# Altium footprint library CMod5_1.PcbLib: 117 footprints (part 5 of 8)
Each footprint in its own frame and in the unit in brackets; x right, y up, seen from the top. Pads: shape width x height; smd on the part's side, far side on the other; paste and mask are expansions set on the pad; w line width, h text height; cw(c..) or ccw(c..) is an arc to the next point about the centre after c.
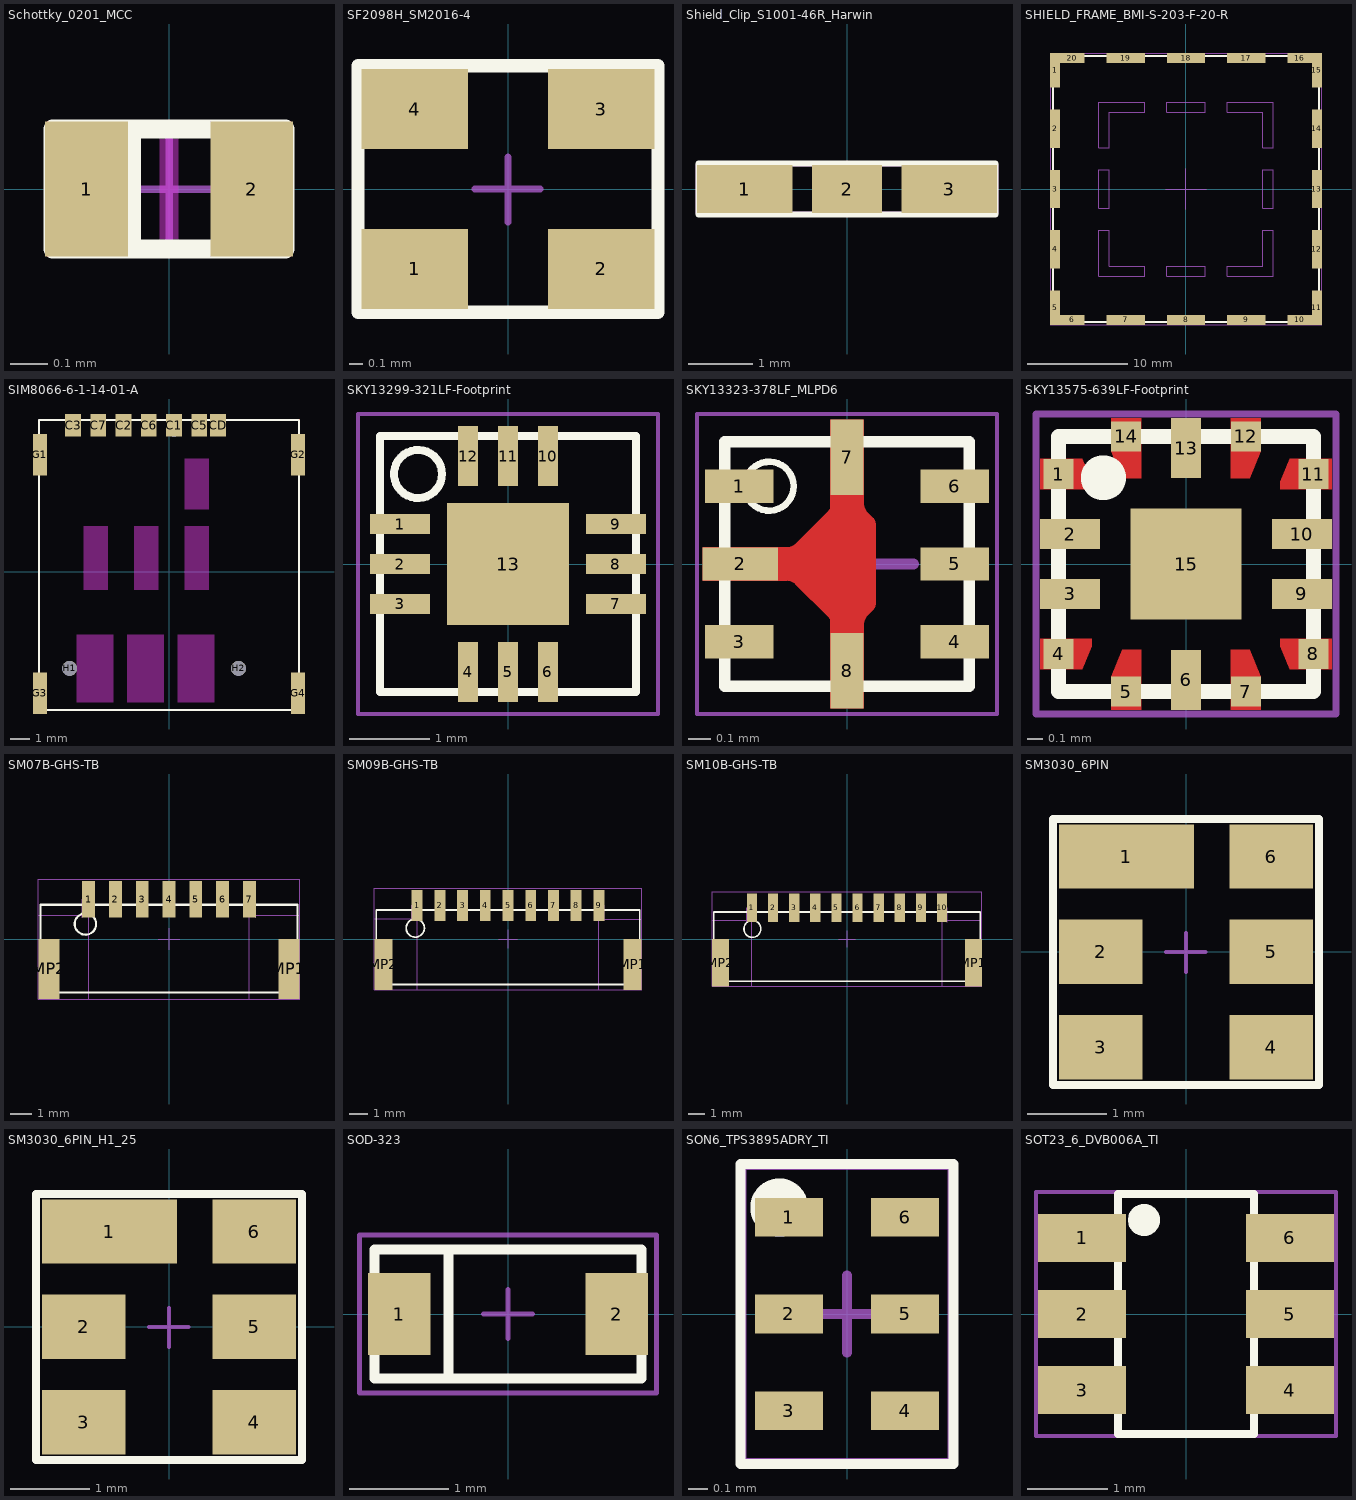
[diagram p4: the footprints below, top view; thin cyan lines are the x and y axes]

## Schottky_0201_MCC [mm] "Schottkydiode, 0201, Micro Commercial Components"
height 0.37
pads (2):
  rect 0.22x0.36 smd mask+0.05: 1(-0.22,0) 2(0.22,0)
Top Layer keep-out:
  rectangle: -0.025,-0.18 0.025,0.18
Top Overlay:
  lines w0.05: -0.1,-0.16 -0.1,0.16 ; -0.31,-0.16 -0.31,0.16 0.31,0.16 0.31,-0.16 -0.31,-0.16
Top Courtyard:
  lines w0.02: -0.145,0 0.145,0 ; 0,-0.15 0,0.15 ; -0.31,-0.16 0.31,-0.16 0.31,0.16 -0.31,0.16 -0.31,-0.16
3D body: height 0.32, standoff 0.05, extent -0.125,-0.15 -0.075,0.15
3D body "RB751S-40DP-TP.stp": height 0.31, standoff 0.01, extent -0.31,-0.16 0.31,0.16

## SF2098H_SM2016-4 [mm] "SM2016-4, 1.6 x 2 4 pin"
height 0.75
pads (4):
  rect 0.8x0.6 smd paste+0 mask+0.05: 1(-0.7,-0.6) 2(0.7,-0.6) 3(0.7,0.6) 4(-0.7,0.6)
Top Overlay:
  circle w0.2: c-0.85,-0.65 r0.1
  lines w0.1: -1.125,-0.925 1.125,-0.925 1.125,0.925 -1.125,0.925 -1.125,-0.925
Top Courtyard:
  lines w0.05: -0.25,0 0.243,0 ; 0,-0.25 0,0.24 ; -1.125,-0.925 1.125,-0.925 1.125,0.925 -1.125,0.925 -1.125,-0.925
3D body: height 0.76, standoff 0.7, extent -0.9,-0.7 -0.6,-0.4
3D body: height 0.75, standoff 0, extent -1.05,-0.85 1.05,0.85

## Shield_Clip_S1001-46R_Harwin [mm] "EMC Shielding Clip"
height 2.1
pads (3):
  rect 1.5x0.75 smd paste-0.05 mask+0.05: 1(-1.6,0) 3(1.6,0)
  rect 1.1x0.75 smd paste-0.05 mask+0.05: 2(0,0)
Top Overlay:
  lines w0.1: -2.325,-0.4 -2.325,0.4 2.325,0.4 2.325,-0.4 -2.325,-0.4
Top Courtyard:
  lines w0.05: -0.25,0 0.25,0 ; 0,-0.25 0,0.25 ; -2.35,-0.375 -2.35,0.375 2.35,0.375 2.35,-0.375 -2.35,-0.375
3D body "s1001-46.stp": height 0.8, standoff 0, extent -2.25,-0.35 2.25,0.35

## SHIELD_FRAME_BMI-S-203-F-20-R [mm] "SHIELD FRAME 26.2 x 26.2 x 2"
height 2
pads (20):
  rect 1x3.41 smd paste+0 mask+0.05: 1(-13.01,11.805) 5(-13.01,-11.805) 11(13.01,-11.805) 15(13.01,11.805)
  rect 1x3.8 smd paste+0 mask+0.05: 2(-13.01,6) 3(-13.01,0) 4(-13.01,-6) 12(13.01,-6) 13(13.01,0) 14(13.01,6)
  rect 2.41x1 smd paste+0 mask+0.05: 6(-11.305,-13.01) 10(11.305,-13.01) 16(11.305,13.01) 20(-11.305,13.01)
  rect 3.8x1 smd paste+0 mask+0.05: 7(-6,-13.01) 8(0,-13.01) 9(6,-13.01) 17(6,13.01) 18(0,13.01) 19(-6,13.01)
Top Overlay:
  lines w0.2: -13.2,-13.2 13.2,-13.2 13.2,13.2 -13.2,13.2 -13.2,-13.2
Mechanical 4:
  lines w0.02: -8.65,-8.655 -4.1,-8.655 ; -8.65,-8.655 -8.65,-4.105 ; -8.65,-8.655 -8.65,-4.105 ; -8.65,-8.655 -4.1,-8.655 ; -8.65,-4.105 -7.65,-4.105 ; -8.65,-4.105 -7.65,-4.105 ; -8.65,-1.905 -8.65,1.895 ; -8.65,-1.905 -7.65,-1.905 ; -8.65,-1.905 -7.65,-1.905 ; -8.65,-1.905 -8.65,1.895 ; -8.65,1.895 -7.65,1.895 ; -8.65,1.895 -7.65,1.895 ; -8.65,4.095 -8.65,8.645 ; -8.65,4.095 -7.65,4.095 ; -8.65,4.095 -7.65,4.095 ; -8.65,4.095 -8.65,8.645 ; -8.65,8.645 -4.1,8.645 ; -8.65,8.645 -4.1,8.645 ; -7.65,-7.655 -7.65,-4.105 ; -7.65,-7.655 -4.1,-7.655 ; -7.65,-7.655 -7.65,-4.105 ; -7.65,-7.655 -4.1,-7.655 ; -7.65,-1.905 -7.65,1.895 ; -7.65,-1.905 -7.65,1.895 ; -7.65,4.095 -7.65,7.645 ; -7.65,4.095 -7.65,7.645 ; -7.65,7.645 -4.1,7.645 ; -7.65,7.645 -4.1,7.645 ; -4.1,-8.655 -4.1,-7.655 ; -4.1,-8.655 -4.1,-7.655 ; -4.1,7.645 -4.1,8.645 ; -4.1,7.645 -4.1,8.645 ; -1.9,-8.655 1.9,-8.655 ; -1.9,-8.655 -1.9,-7.655 ; -1.9,-8.655 -1.9,-7.655 ; -1.9,-8.655 1.9,-8.655 ; -1.9,-7.655 1.9,-7.655 ; -1.9,-7.655 1.9,-7.655 ; -1.9,7.645 1.9,7.645 ; -1.9,7.645 -1.9,8.645 ; -1.9,7.645 -1.9,8.645 ; -1.9,7.645 1.9,7.645 ; -1.9,8.645 1.9,8.645 ; -1.9,8.645 1.9,8.645 ; 1.9,-8.655 1.9,-7.655 ; 1.9,-8.655 1.9,-7.655 ; 1.9,7.645 1.9,8.645 ; 1.9,7.645 1.9,8.645 ; 4.1,-8.655 8.65,-8.655 ; 4.1,-8.655 4.1,-7.655 ; 4.1,-8.655 4.1,-7.655 ; 4.1,-8.655 8.65,-8.655 ; 4.1,-7.655 7.65,-7.655 ; 4.1,-7.655 7.65,-7.655 ; 4.1,7.645 7.65,7.645 ; 4.1,7.645 4.1,8.645 ; 4.1,7.645 4.1,8.645 ; 4.1,7.645 7.65,7.645 ; 4.1,8.645 8.65,8.645 ; 4.1,8.645 8.65,8.645 ; 7.65,-7.655 7.65,-4.105 ; 7.65,-7.655 7.65,-4.105 ; 7.65,-4.105 8.65,-4.105 ; 7.65,-4.105 8.65,-4.105 ; 7.65,-1.905 8.65,-1.905 ; 7.65,-1.905 7.65,1.895 ; 7.65,-1.905 7.65,1.895 ; 7.65,-1.905 8.65,-1.905 ; 7.65,1.895 8.65,1.895 ; 7.65,1.895 8.65,1.895 ; 7.65,4.095 8.65,4.095 ; 7.65,4.095 7.65,7.645 ; 7.65,4.095 7.65,7.645 ; 7.65,4.095 8.65,4.095 ; 8.65,-8.655 8.65,-4.105 ; 8.65,-8.655 8.65,-4.105 ; 8.65,-1.905 8.65,1.895 ; 8.65,-1.905 8.65,1.895 ; 8.65,4.095 8.65,8.645 ; 8.65,4.095 8.65,8.645
Top Courtyard:
  lines w0.1: -2,0 2,0 ; 0,-2 0,2 ; -13.5,-13.5 -13.5,13.5 13.5,13.5 13.5,-13.5 -13.5,-13.5
3D body "bmi-s-203-f-20-r-stp-file.STP": height 2, standoff 0, extent -13.105,-13.105 13.105,13.105

## SIM8066-6-1-14-01-A [mm] "Nano SIM, Push-Push, 6Pin, SMT, RA"
height 1.44
pads (13):
  rect 0.8x1.14 smd paste+0 mask+0.05: C1(0.25,7.37) C2(-2.29,7.37) C3(-4.83,7.37) C5(1.52,7.37) C6(-1.02,7.37) C7(-3.56,7.37) CD(2.47,7.37)
  rect 0.7x2.1 smd paste+0 mask+0.05: G1(-6.5,5.89) G2(6.5,5.89) G3(-6.5,-6.11) G4(6.5,-6.11)
  round 0.75 hole 0.75 unplated: H1(-5,-4.86) H2(3.5,-4.86)
Top Layer keep-out:
  region: 2,-0.915 0.8,-0.915 0.8,2.295 2,2.295
  region: 2.285,-6.56 0.435,-6.56 0.435,-3.16 2.285,-3.16
  region: -0.255,-6.56 -2.105,-6.56 -2.105,-3.16 -0.255,-3.16
  region: -2.795,-6.56 -4.645,-6.56 -4.645,-3.16 -2.795,-3.16
  region: -3.08,-0.915 -4.28,-0.915 -4.28,2.295 -3.08,2.295
  region: -0.54,-0.915 -1.74,-0.915 -1.74,2.295 -0.54,2.295
  region: 2,3.135 0.8,3.135 0.8,5.685 2,5.685
Top Overlay:
  circle w0.2: c0.25,7 r0.1
  lines w0.1: -6.55,-6.95 6.55,-6.95 6.55,7.65 -6.55,7.65 -6.55,-6.95
Top Courtyard:
  lines w0.05: -6.55,-6.95 6.55,-6.95 6.55,7.65 -6.55,7.65 -6.55,-6.95
3D body "SIM8066-6-1-14-01-A--3DModel-STEP-56544.STEP": height 1.44, standoff -0.37, extent -6.545,-6.94 6.545,7.64

## SKY13299-321LF-Footprint [mm] "QFN12, 3 x 3 mm Skyworks"
height 0.8
pads (13):
  rect 0.75x0.25 smd paste+0 mask+0.05: 1(-1.35,0.5) 2(-1.35,0) 3(-1.35,-0.5) 7(1.35,-0.5) 8(1.35,0) 9(1.35,0.5)
  rect 0.25x0.75 smd paste+0 mask+0.05: 4(-0.5,-1.35) 5(0,-1.35) 6(0.5,-1.35) 10(0.5,1.35) 11(0,1.35) 12(-0.5,1.35)
  rect 1.525x1.525 smd paste+0 mask+0.05: 13(0,0)
Top Overlay:
  circle w0.1: c-1.125,1.125 r0.3
  lines w0.1: -1.6,-1.6 -1.6,1.6 1.6,1.6 1.6,-1.6 -1.6,-1.6
Top Courtyard:
  lines w0.05: -1.875,-1.875 1.875,-1.875 1.875,1.875 -1.875,1.875 -1.875,-1.875
3D body: height 0.77, standoff 0.7, extent -1.3,0.95 -0.9,1.35
3D body "SKY13299-321LF.stp": height 0.8, standoff 0, extent -1.55,-1.55 1.55,1.55

## SKY13323-378LF_MLPD6 [mm] "Skyworks MLPD6 package"
height 0.5
pads (8):
  rect 0.31x0.15 smd paste+0 mask+0.05: 1(-0.485,0.35) 3(-0.485,-0.35) 4(0.485,-0.35) 5(0.485,0) 6(0.485,0.35)
  rect 0.34x0.15 smd paste+0 mask+0.05: 2(-0.48,0)
  rect 0.15x0.34 smd paste+0 mask+0.05: 7(0,0.48) 8(0,-0.48)
Top Layer:
  region: -0.65,0.075 -0.273,0.075 -0.267,0.075 -0.255,0.078 -0.243,0.083 -0.233,0.089 -0.228,0.094 -0.083,0.239 -0.081,0.241 -0.078,0.245 -0.076,0.25 -0.075,0.256 -0.075,0.258 -0.075,0.65 0.075,0.65 0.075,0.276 0.075,0.27 0.078,0.258 0.082,0.246 0.089,0.236 0.094,0.231 0.116,0.209 0.119,0.206 0.125,0.198 0.128,0.189 0.13,0.18 0.13,0.175 0.13,-0.175 0.13,-0.18 0.128,-0.189 0.125,-0.198 0.119,-0.206 0.116,-0.209 0.094,-0.231 0.089,-0.236 0.082,-0.246 0.078,-0.258 0.075,-0.27 0.075,-0.276 0.075,-0.65 -0.075,-0.65 -0.075,-0.259 -0.075,-0.256 -0.076,-0.251 -0.078,-0.245 -0.082,-0.241 -0.084,-0.238 -0.232,-0.09 -0.236,-0.087 -0.244,-0.081 -0.253,-0.077 -0.263,-0.075 -0.269,-0.075 -0.65,-0.075
Top Overlay:
  circle w0.03: c-0.35,0.35 r0.11
  lines w0.05: -0.55,-0.55 0.55,-0.55 0.55,0.55 -0.55,0.55 -0.55,-0.55
Top Courtyard:
  lines w0.02: -0.675,-0.675 0.675,-0.675 0.675,0.675 -0.675,0.675 -0.675,-0.675
  lines w0.05: -0.3,0 0.3,0 ; 0,-0.3 0,0.3
3D body "SKY13323-378LF.STEP": height 0.5, standoff 0, extent -0.5,-0.5 0.5,0.5

## SKY13575-639LF-Footprint [mm] "QFN14 SKYWORKS"
height 0.5
pads (15):
  rect 0.2x0.2 smd paste-1 mask+0: 1(-0.85,0.6) 4(-0.85,-0.6) 5(-0.4,-0.85) 7(0.4,-0.85) 8(0.85,-0.6) 11(0.85,0.6) 12(0.4,0.85) 14(-0.4,0.85)
  rect 0.4x0.2 smd paste+0 mask+0.05: 2(-0.772,0.2) 3(-0.772,-0.2) 9(0.772,-0.2) 10(0.772,0.2)
  rect 0.2x0.4 smd paste+0 mask+0.05: 6(0,-0.772) 13(0,0.772)
  rect 0.74x0.74 smd paste+0 mask+0.05: 15(0,0)
Top Layer:
  region: 0.5,0.752 0.425,0.572 0.3,0.572 0.3,0.972 0.5,0.972
  region: 0.972,0.5 0.627,0.5 0.627,0.548 0.691,0.7 0.972,0.7
  region: -0.3,0.572 -0.425,0.572 -0.5,0.752 -0.5,0.972 -0.3,0.972
  region: -0.3,-0.972 -0.5,-0.972 -0.5,-0.752 -0.425,-0.572 -0.3,-0.572
  region: 0.5,-0.752 0.5,-0.972 0.3,-0.972 0.3,-0.572 0.425,-0.572
  region: -0.627,-0.548 -0.691,-0.7 -0.972,-0.7 -0.972,-0.5 -0.627,-0.5
  region: -0.627,0.548 -0.627,0.5 -0.972,0.5 -0.972,0.7 -0.691,0.7
  region: 0.972,-0.7 0.691,-0.7 0.627,-0.548 0.627,-0.5 0.972,-0.5
Top Overlay:
  circle w0.2: c-0.55,0.575 r0.05
  lines w0.1: -0.85,-0.85 -0.85,0.85 0.85,0.85 0.85,-0.85 -0.85,-0.85
Top Paste:
  region: 0.5,0.752 0.425,0.572 0.3,0.572 0.3,0.972 0.5,0.972
  region: 0.972,0.5 0.627,0.5 0.627,0.548 0.691,0.7 0.972,0.7
  region: -0.3,0.572 -0.425,0.572 -0.5,0.752 -0.5,0.972 -0.3,0.972
  region: -0.3,-0.972 -0.5,-0.972 -0.5,-0.752 -0.425,-0.572 -0.3,-0.572
  region: 0.5,-0.752 0.5,-0.972 0.3,-0.972 0.3,-0.572 0.425,-0.572
  region: -0.627,-0.548 -0.691,-0.7 -0.972,-0.7 -0.972,-0.5 -0.627,-0.5
  region: -0.627,0.548 -0.627,0.5 -0.972,0.5 -0.972,0.7 -0.691,0.7
  region: 0.972,-0.7 0.691,-0.7 0.627,-0.548 0.627,-0.5 0.972,-0.5
Top Courtyard:
  lines w0.05: -1,-1 -1,1 1,1 1,-1 -1,-1
3D body: height 0.44, standoff 0.34, extent -0.7,0.5 -0.5,0.7
3D body "QFN12_4x3_SKY13575_SKY.step": height 0.43, standoff 0, extent -0.8,-0.8 0.8,0.8

## SM07B-GHS-TB [mm] "JST GH Connector, 7 pin, Horzontal, Pitch 1.25 mm"
height 4.25
pads (9):
  rect 0.6x1.7 smd paste+0 mask+0.07: 1(-3.75,1.85) 2(-2.5,1.85) 3(-1.25,1.85) 4(0,1.85) 5(1.25,1.85) 6(2.5,1.85) 7(3.75,1.85)
  rect 1x2.8 smd paste+0 mask+0.07: MP1(5.6,-1.4) MP2(-5.6,-1.4)
Top Overlay:
  circle w0.1: c-3.9,0.7 r0.5
  lines w0.1: -6,-2.5 -6,1.6 6,1.6 6,-2.5 -6,-2.5
Mechanical 4:
  lines w0.02: -4.05,1 -4.05,1.85 -3.75,1.85 ; 3.75,1.85 4.05,1.85 4.05,1 ; -6.1,-2.8 -6.1,1.1 -3.75,1.1 -3.75,-2.8 -6.1,-2.8 ; 3.75,-2.8 6.1,-2.8 6.1,1.1 3.75,1.1 3.75,-2.8
Top Courtyard:
  lines w0.02: -0.5,0 0.5,0 ; 0,-0.5 0,0.5 ; 5.475,-2.8 -6.1,-2.8 -6.1,2.8 6.1,2.8 6.1,-2.8
Top Designator:
3D body "JST_GH_SM07B-GHS-TB_1x07-1MP_P1.25mm_Horizontal.step": height 4.25, standoff -0.01, extent -6,-2.475 6,2.476

## SM09B-GHS-TB [mm] "JST GH Connector, 9 pin, Horizontal, Pitch 1.25 mm"
height 4.25
pads (11):
  rect 0.6x1.7 smd paste+0 mask+0.07: 1(-5,1.85) 2(-3.75,1.85) 3(-2.5,1.85) 4(-1.25,1.85) 5(0,1.85) 6(1.25,1.85) 7(2.5,1.85) 8(3.75,1.85) 9(5,1.85)
  rect 1x2.8 smd paste+0 mask+0.07: MP1(6.85,-1.4) MP2(-6.85,-1.4)
Top Overlay:
  circle w0.1: c-5.1,0.6 r0.5
  lines w0.1: -7.25,-2.5 7.25,-2.5 7.25,1.6 -7.25,1.6 -7.25,-2.5
Mechanical 4:
  lines w0.02: -5.3,1 -5.3,1.85 -5,1.85 ; 5,1.85 5.3,1.85 5.3,1 ; -7.35,-2.8 -5,-2.8 -5,1.1 -7.35,1.1 -7.35,-2.8 ; 5,-2.8 5,1.1 7.35,1.1 7.35,-2.8 5,-2.8
Top Courtyard:
  lines w0.02: -0.5,0 0.5,0 ; 0,-0.5 0,0.5 ; -7.35,-2.8 7.35,-2.8 7.35,2.8 -7.35,2.8 -7.35,-2.8
Top Designator:
3D body "JST_GH_SM09B-GHS-TB_1x09-1MP_P1.25mm_Horizontal.step": height 4.25, standoff -0.01, extent -7.25,-2.475 7.25,2.476

## SM10B-GHS-TB [mm] "JST GH Connector, 10 pin, Horizontal, Pitch 1.25 mm"
height 4.25
pads (12):
  rect 0.6x1.7 smd paste+0 mask+0.07: 1(-5.625,1.85) 2(-4.375,1.85) 3(-3.125,1.85) 4(-1.875,1.85) 5(-0.625,1.85) 6(0.625,1.85) 7(1.875,1.85) 8(3.125,1.85) 9(4.375,1.85) 10(5.625,1.85)
  rect 1x2.8 smd paste+0 mask+0.07: MP1(7.475,-1.4) MP2(-7.475,-1.4)
Top Overlay:
  circle w0.1: c-5.6,0.6 r0.5
  lines w0.1: -7.875,-2.5 7.875,-2.5 7.875,1.6 -7.875,1.6 -7.875,-2.5
Mechanical 4:
  lines w0.02: -5.925,1 -5.925,1.85 -5.625,1.85 ; 5.625,1.85 5.925,1.85 5.925,1 ; -7.975,-2.8 -5.625,-2.8 -5.625,1.1 -7.975,1.1 -7.975,-2.8 ; 5.625,-2.8 5.625,1.1 7.975,1.1 7.975,-2.8 5.625,-2.8
Top Courtyard:
  lines w0.02: -0.5,0 0.5,0 ; 0,-0.5 0,0.5 ; -7.975,-2.8 7.975,-2.8 7.975,2.8 -7.975,2.8 -7.975,-2.8
Top Designator:
3D body "JST_GH_SM10B-GHS-TB_1x10-1MP_P1.25mm_Horizontal.step": height 4.25, standoff -0.01, extent -7.875,-2.475 7.875,2.476

## SM3030_6PIN [mm] "3x3mm 6 pin"
height 1.4
pads (6):
  rect 1.7x0.81 smd paste+0 mask+0.05: 1(-0.75,1.2)
  rect 1.05x0.81 smd paste+0 mask+0.05: 2(-1.075,0) 3(-1.075,-1.2) 4(1.075,-1.2) 5(1.075,0) 6(1.075,1.2)
Top Overlay:
  circle w0.2: c-1.156,1.146 r0.1
  lines w0.1: -1.675,-1.675 -1.675,1.675 1.675,1.675 1.675,-1.675 -1.675,-1.675
Top 3D Body:
  circle w0.2: c-1.156,1.146 r0.1
Top Courtyard:
  lines w0.05: -0.25,0 0.243,0 ; 0,-0.25 0,0.24 ; -1.65,-1.65 -1.65,1.65 1.65,1.65 1.65,-1.65 -1.65,-1.65
3D body: height 1.4, standoff 0, extent -1.575,-1.575 1.575,1.575
3D body: height 1.41, standoff 0, extent -1.356,0.946 -0.956,1.346

## SM3030_6PIN_H1_25 [mm] "3x3mm 6 pin, height 1.25mm"
height 1.25
pads (6):
  rect 1.7x0.81 smd paste+0 mask+0.05: 1(-0.75,1.2)
  rect 1.05x0.81 smd paste+0 mask+0.05: 2(-1.075,0) 3(-1.075,-1.2) 4(1.075,-1.2) 5(1.075,0) 6(1.075,1.2)
Top Overlay:
  circle w0.2: c-1.156,1.146 r0.1
  lines w0.1: -1.675,-1.675 1.675,-1.675 1.675,1.675 -1.675,1.675 -1.675,-1.675
Top 3D Body:
  circle w0.2: c-1.156,1.146 r0.1
Top Courtyard:
  lines w0.05: -0.25,0 0.243,0 ; 0,-0.25 0,0.24 ; -1.65,-1.65 1.65,-1.65 1.65,1.65 -1.65,1.65 -1.65,-1.65
3D body: height 1.41, standoff 0, extent -1.356,0.946 -0.956,1.346
3D body: height 1.25, standoff 0, extent -1.575,-1.575 1.575,1.575

## SOD-323 [mm]
height 1.15
pads (2):
  rect 0.63x0.83 smd paste+0 mask+0.06: 1(-1.1,0)
  rect 0.63x0.83 smd mask+0.06: 2(1.1,0)
Top Overlay:
  lines w0.1: -0.6,-0.6 -0.6,0.6 ; -1.35,-0.65 -1.35,0.65 1.35,0.65 1.35,-0.65 -1.35,-0.65
Top Courtyard:
  lines w0.05: -0.25,0 0.25,0 ; 0,-0.25 0,0.25 ; -1.5,-0.8 -1.5,0.8 1.5,0.8 1.5,-0.8 -1.5,-0.8
3D body "SOD-323_J.stp": height 0.94, standoff -0.01, extent -1.342,-0.65 1.342,0.65

## SON6_TPS3895ADRY_TI [mm] "6-UFDFN"
height 0.55
pads (6):
  rect 0.35x0.2 smd paste+0 mask+0.05: 1(-0.3,0.5) 2(-0.3,0) 3(-0.3,-0.5) 4(0.3,-0.5) 5(0.3,0) 6(0.3,0.5)
Top Overlay:
  circle w0.2: c-0.35,0.55 r0.05
  lines w0.05: -0.55,-0.775 0.55,-0.775 0.55,0.775 -0.55,0.775 -0.55,-0.775
Top Courtyard:
  lines w0.01: -0.525,-0.75 -0.525,0.75 0.525,0.75 0.525,-0.75 -0.525,-0.75
  lines w0.05: -0.2,0 0.2,0 ; 0,-0.2 0,0.2
Top Designator:
3D body: height 0.7, standoff 0.69, extent -0.45,0.35 -0.15,0.65
3D body "TPS3895ADRYR.stp": height 0.7, standoff 0, extent -0.5,-0.725 0.5,0.725

## SOT23_6_DVB006A_TI [mm] "SOT23 6pin"
height 1.45
pads (6):
  rect 1.1x0.6 smd paste+0 mask+0.05: 1(-1.3,0.95) 2(-1.3,0) 3(-1.3,-0.95) 4(1.3,-0.95) 5(1.3,0) 6(1.3,0.95)
Top Overlay:
  circle w0.2: c-0.525,1.175 r0.1
  lines w0.1: -0.85,-1.5 0.85,-1.5 0.85,1.5 -0.85,1.5 -0.85,-1.5
Top Courtyard:
  lines w0.05: -1.875,-1.525 -1.875,1.525 1.875,1.525 1.875,-1.525 -1.875,-1.525
3D body "LM3880MF-1AA_NOPB.stp": height 1.45, standoff 0, extent -1.4,-1.45 1.4,1.45
3D body: height 1.44, standoff 1.35, extent -0.624,0.825 -0.325,1.125